# Altium footprint library Thermometer.PcbLib: 36 footprints (part 2 of 3)
Each footprint in its own frame and in the unit in brackets; x right, y up, seen from the top. Pads: shape width x height; smd on the part's side, far side on the other; paste and mask are expansions set on the pad; w line width, h text height; cw(c..) or ccw(c..) is an arc to the next point about the centre after c.
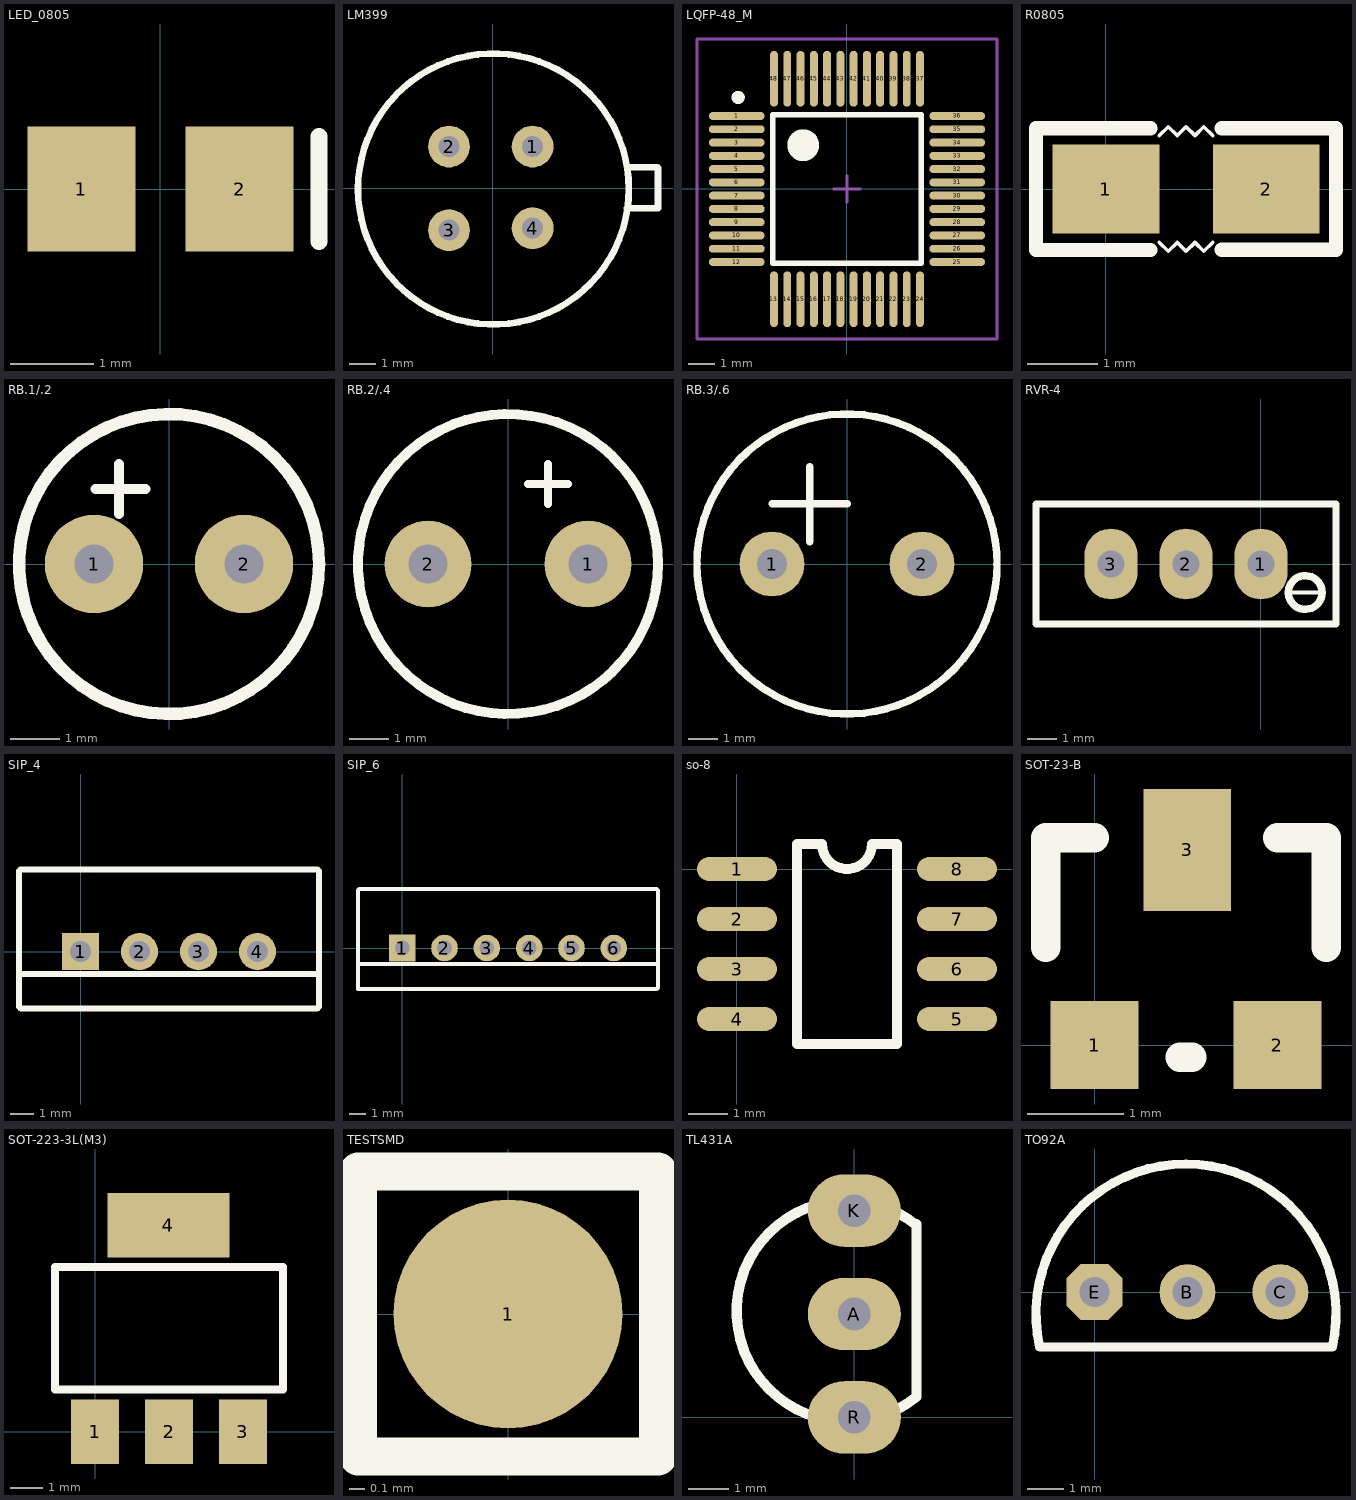
[diagram p1: the footprints below, top view; thin cyan lines are the x and y axes]

## LED_0805 [mm]
pads (2):
  rect 1.3x1.5 smd: 1(-0.95,0) 2(0.95,0)
Top Overlay:
  lines w0.2: 1.905,-0.635 1.905,0.635

## LM399 [mm]
pads (4):
  round 1.6 hole 0.8: 1(1.524,1.6) 2(-1.676,1.6) 3(-1.676,-1.6) 4(1.524,-1.524)
Top Overlay:
  circle w0.254: c0.025,-0.025 r5.186
  lines w0.254: 5.131,-0.762 6.325,-0.762 6.325,0.787 6.299,0.813 5.232,0.813

## LQFP-48_M [mm]
pads (48):
  oval 2.1x0.3 smd: 1(-4.152,2.75) 2(-4.152,2.25) 3(-4.152,1.75) 4(-4.152,1.25) 5(-4.152,0.75) 6(-4.152,0.25) 7(-4.152,-0.25) 8(-4.152,-0.75) 9(-4.152,-1.25) 10(-4.152,-1.75) 11(-4.152,-2.25) 12(-4.152,-2.75) 25(4.152,-2.75) 26(4.152,-2.25) 27(4.152,-1.75) 28(4.152,-1.25) 29(4.152,-0.75) 30(4.152,-0.25) 31(4.152,0.25) 32(4.152,0.75) 33(4.152,1.25) 34(4.152,1.75) 35(4.152,2.25) 36(4.152,2.75)
  oval 0.3x2.1 smd: 13(-2.75,-4.152) 14(-2.25,-4.152) 15(-1.75,-4.152) 16(-1.25,-4.152) 17(-0.75,-4.152) 18(-0.25,-4.152) 19(0.25,-4.152) 20(0.75,-4.152) 21(1.25,-4.152) 22(1.75,-4.152) 23(2.25,-4.152) 24(2.75,-4.152) 37(2.75,4.152) 38(2.25,4.152) 39(1.75,4.152) 40(1.25,4.152) 41(0.75,4.152) 42(0.25,4.152) 43(-0.25,4.152) 44(-0.75,4.152) 45(-1.25,4.152) 46(-1.75,4.152) 47(-2.25,4.152) 48(-2.75,4.152)
Top Overlay:
  circle w0.25: c-4.1,3.45 r0.125
  circle w0.6: c-1.65,1.65 r0.3
  lines w0.2: -2.8,-2.8 -2.8,2.8 2.8,2.8 2.8,-2.8 -2.8,-2.8
Mechanical 15:
  lines w0.1: -0.5,0 0.5,0 ; 0,-0.5 0,0.5 ; -5.65,-5.65 -5.65,5.65 5.65,5.65 5.65,-5.65 -5.65,-5.65

## R0805 [mil]
pads (2):
  rect 60x50 smd: 1(0,0) 2(90,0)
Top Overlay:
  lines w1.97: 30,-30 35,-35 40,-30 45,-35 50,-30 55,-35 60,-30 ; 30,30 35,35 40,30 45,35 50,30 55,35 60,30
  lines w8: 25,-34.16 -39.19,-34.16 -39.19,34.09 25,34.09 ; 65,-34.08 129.13,-34.08 129.13,34.12 65,34.12

## RB.1/.2 [mm]
pads (2):
  round 2 hole 0.8: 1(-1.524,0) 2(1.524,0)
Top Overlay:
  circle w0.254: c0,0 r3.048
  lines w0.203: -1.492,1.527 -0.476,1.527 ; -1.016,1.016 -1.016,2.032

## RB.2/.4 [mm]
pads (2):
  round 2.2 hole 1: 1(2.032,0) 2(-2.032,0)
Top Overlay:
  circle w0.254: c0,0 r3.81
  lines w0.203: 0.508,2.032 1.524,2.032 ; 1.016,1.524 1.016,2.54

## RB.3/.6 [mm]
pads (2):
  round 2.2 hole 1: 1(-2.54,0) 2(2.54,0)
Top Overlay:
  circle w0.254: c0,0 r5.08
  lines w0.254: -2.54,2.032 0,2.032 ; -1.27,0.762 -1.27,3.302

## RVR-4 [mm]
pads (3):
  oval 1.8x2.4 hole 0.9: 1(0,0) 2(-2.54,0) 3(-5.08,0)
Top Overlay:
  circle w0.254: c1.499,-0.965 r0.571
  lines w0.127: 0.94,-0.965 2.069,-0.965
  lines w0.24: -7.62,-2.032 2.54,-2.032 2.54,2.032 -7.62,2.032 -7.62,-2.032

## SIP_4 [mm]
pads (4):
  rect 1.6x1.6 hole 0.889: 1(0,0)
  round 1.6 hole 0.889: 2(2.54,0) 3(5.08,0) 4(7.62,0)
Top Overlay:
  lines w0.254: -2.65,-0.965 10.245,-0.965 ; -1.575,-2.46 9.119,-2.46 ; -1.549,-2.46 -2.569,-2.46 -2.65,-2.379 -2.65,-1.245 -2.65,1.321 -2.65,3.463 -2.573,3.54 -1.473,3.54 ; -1.524,3.54 9.119,3.54 10.201,3.54 10.27,3.471 10.27,1.93 10.27,-1.245 10.27,-2.379 10.189,-2.46 9.093,-2.46

## SIP_6 [mm]
pads (6):
  rect 1.6x1.6 hole 0.889: 1(0,0)
  round 1.6 hole 0.889: 2(2.54,0) 3(5.08,0) 4(7.62,0) 5(10.16,0) 6(12.7,0)
Top Overlay:
  lines w0.254: -2.65,-0.965 15.325,-0.965 ; -1.524,3.54 14.148,3.54 15.256,3.54 15.35,3.446 15.35,1.448 15.35,-1.524 15.35,-2.379 15.269,-2.46 14.148,-2.46 -1.524,-2.46 -2.645,-2.46 -2.65,-2.455 -2.65,-1.524 -2.65,1.524 -2.65,3.471 -2.581,3.54 -1.499,3.54

## so-8 [mil]
pads (8):
  oval 80x24 smd: 1(0.24,0.13) 2(0.24,-49.87) 3(0.24,-99.87) 4(0.24,-149.87) 5(220.24,-149.87) 6(220.24,-99.87) 7(220.24,-49.87) 8(220.24,0.13)
Top Overlay:
  lines w10: 60.24,-174.87 160.24,-174.87 160.24,25.13 135.24,25.13 cw(c110.24,25.13) 85.24,25.13 60.24,25.13 60.24,-174.87

## SOT-23-B [mil]
pads (3):
  rect 36x36 smd: 1(0,0) 2(75,0)
  rect 36x50 smd: 3(38,80)
Top Overlay:
  lines w12: -20,40 -20,85 0,85 ; 35,-5 40,-5 ; 75,85 95,85 95,40

## SOT-223-3L(M3) [mil]
pads (4):
  rect 59x79 smd: 1(0,0) 2(90.55,0) 3(181.1,0)
  rect 150x79 smd: 4(89.88,253.54)
Top Overlay:
  lines w10: -49.45,52 -49.45,202 230.55,202 230.55,52 -49.45,52

## TESTSMD [mil]
pads (1):
  round 60 smd: 1(0,0)
Top Overlay:
  lines w10: -39.37,-37.4 -39.37,37.4 39.37,37.4 39.37,-37.4 -39.37,-37.4

## TL431A [mil]
pads (3):
  oval 90x70 hole 31.5: A(0,100) K(0,200) R(0,0)
Top Overlay:
  lines w10: 60,185.79 ccw(c-7.13,102.89) 60,20 60,186.67

## TO92A [mil]
pads (3):
  round 60 hole 32: B(100,0) C(200,0)
  oct 60x60 hole 32: E(0,0)
Top Overlay:
  lines w10: -59.06,-59.05 cw(c98.43,-23.62) 255.91,-59.05 -59.05,-59.06